# Altium footprint library LayoutFootprintsGoogle.PcbLib: 10 footprints
Each footprint in its own frame and in the unit in brackets; x right, y up, seen from the top. Pads: shape width x height; smd on the part's side, far side on the other; paste and mask are expansions set on the pad; w line width, h text height; cw(c..) or ccw(c..) is an arc to the next point about the centre after c.
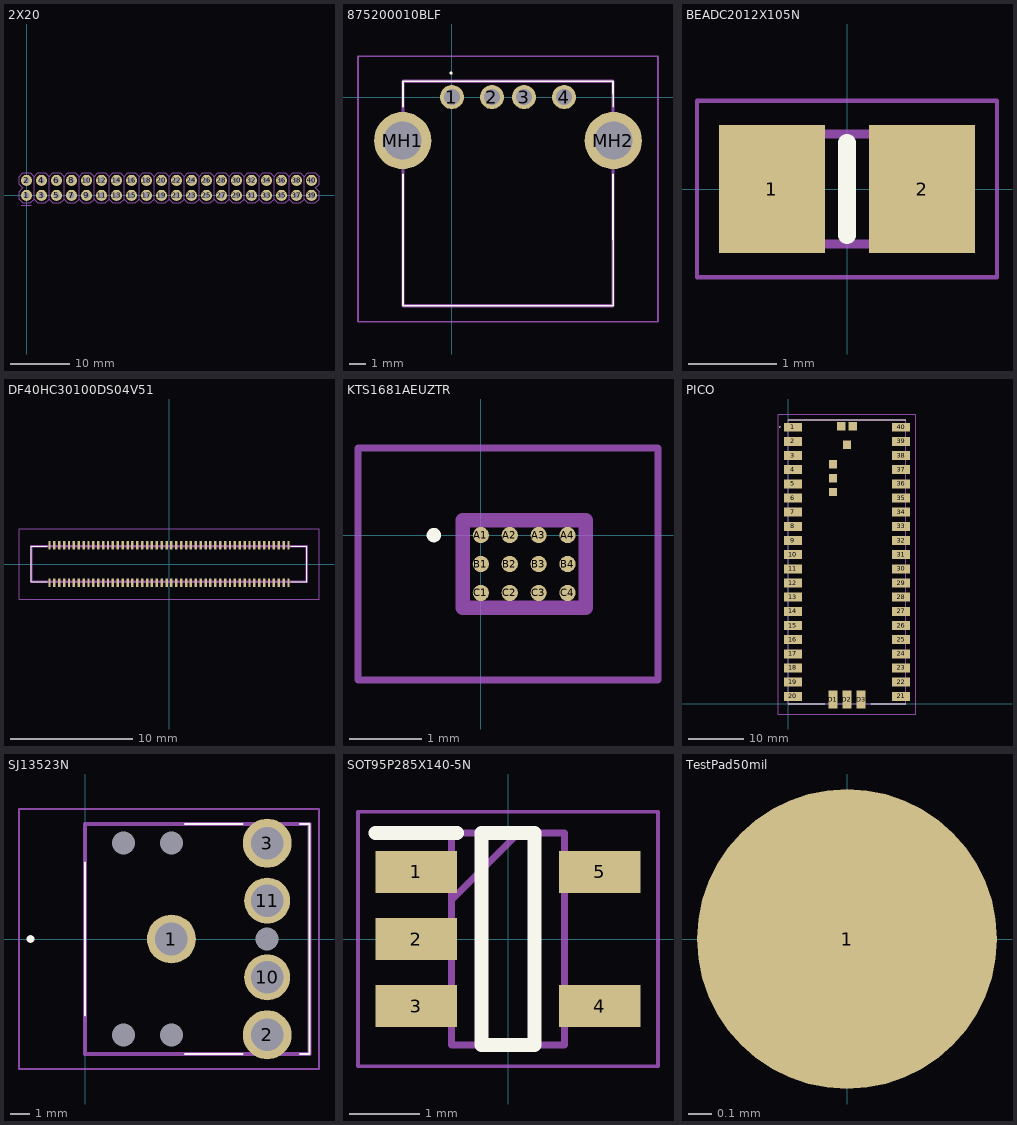
[diagram p0: the footprints below, top view; thin cyan lines are the x and y axes]

## 2X20 [mil]
pads (40):
  round 74 hole 40: 1(0,0) 2(0,100) 3(100,0) 4(100,100) 5(200,0) 6(200,100) 7(300,0) 8(300,100) 9(400,0) 10(400,100) 11(500,0) 12(500,100) 13(600,0) 14(600,100) 15(700,0) 16(700,100) 17(800,0) 18(800,100) 19(900,0) 20(900,100) 21(1000,0) 22(1000,100) 23(1100,0) 24(1100,100) 25(1200,0) 26(1200,100) 27(1300,0) 28(1300,100) 29(1400,0) 30(1400,100) 31(1500,0) 32(1500,100) 33(1600,0) 34(1600,100) 35(1700,0) 36(1700,100) 37(1800,0) 38(1800,100) 39(1900,0) 40(1900,100)
Mechanical 3:
  drawing of 40 lines, arcs and shapes, not listed
Mechanical 7:
  lines w8: -35,-65 30,-65 ; 50,-25 25,-50 -25,-50 -50,-25 -50,25 -25,50 -50,75 -50,125 -25,150 25,150 50,125 ; 50,-25 75,-50 125,-50 150,-25 ; 50,-25 50,125 ; 50,125 75,150 125,150 150,125 ; 150,-25 175,-50 225,-50 250,-25 ; 150,-25 150,125 ; 150,125 175,150 225,150 250,125 ; 250,-25 275,-50 325,-50 350,-25 ; 250,-25 250,125 ; 250,125 275,150 325,150 350,125 ; 350,-25 375,-50 425,-50 450,-25 ; 350,-25 350,125 ; 350,125 375,150 425,150 450,125 ; 450,-25 475,-50 525,-50 550,-25 ; 450,-25 450,125 ; 450,125 475,150 525,150 550,125 ; 550,-25 575,-50 625,-50 650,-25 ; 550,-25 550,125 ; 550,125 575,150 625,150 650,125 ; 650,-25 675,-50 725,-50 750,-25 ; 650,-25 650,125 ; 650,125 675,150 725,150 750,125 ; 750,-25 775,-50 825,-50 850,-25 ; 750,-25 750,125 ; 750,125 775,150 825,150 850,125 ; 850,-25 875,-50 925,-50 950,-25 ; 850,-25 850,125 ; 850,125 875,150 925,150 950,125 ; 950,-25 975,-50 1025,-50 1050,-25 ; 950,-25 950,125 ; 950,125 975,150 1025,150 1050,125 ; 1050,-25 1075,-50 1125,-50 1150,-25 ; 1050,-25 1050,125 ; 1050,125 1075,150 1125,150 1150,125 ; 1150,-25 1175,-50 1225,-50 1250,-25 ; 1150,-25 1150,125 ; 1150,125 1175,150 1225,150 1250,125 ; 1250,-25 1250,125 ; 1250,-25 1275,-50 1325,-50 1350,-25 ; 1250,125 1275,150 1325,150 1350,125 ; 1350,-25 1350,125 ; 1350,-25 1375,-50 1425,-50 1450,-25 ; 1350,125 1375,150 1425,150 1450,125 ; 1450,-25 1450,125 ; 1450,-25 1475,-50 1525,-50 1550,-25 ; 1450,125 1475,150 1525,150 1550,125 ; 1550,-25 1550,125 ; 1550,-25 1575,-50 1625,-50 1650,-25 ; 1550,125 1575,150 1625,150 1650,125 ; 1650,-25 1650,125 ; 1650,-25 1675,-50 1725,-50 1750,-25 ; 1650,125 1675,150 1725,150 1750,125 ; 1750,-25 1750,125 ; 1750,-25 1775,-50 1825,-50 1850,-25 ; 1750,125 1775,150 1825,150 1850,125 ; 1850,-25 1850,125 ; 1850,-25 1875,-50 1925,-50 1950,-25 1950,25 1925,50 1950,75 1950,125 1925,150 1875,150 1850,125
Mechanical 8:
  lines w8: -35,-65 30,-65

## 875200010BLF [mm]
pads (6):
  round 1.5 hole 1: 1(0,0) 2(2.5,0) 3(4.5,0) 4(7,0)
  round 3.57 hole 2.38: MH1(-3.07,-2.71) MH2(10.07,-2.71)
Top Overlay:
  lines w0.1: -3.05,-4.81 -3.05,-13.01 10.07,-13.01 10.05,-4.81 ; -3.05,-0.61 -3.05,0.99 10.05,0.99 10.07,-0.61 ; -0.1,1.5 ccw(c-0.05,1.5) 0,1.5 ccw(c-0.05,1.5) -0.1,1.5
Mechanical 13:
  lines w0.2: -3.05,-13.01 -3.05,0.99 10.05,0.99 10.05,-13.01 -3.05,-13.01
Mechanical 15:
  lines w0.1: -5.855,-14.01 -5.855,2.55 12.855,2.55 12.855,-14.01 -5.855,-14.01
3D body "87520-0010BLF.stp": height 7.9, standoff -5, extent -4.151,-13.01 11.16,0.99

## BEADC2012X105N [mm]
pads (2):
  rect 1.2x1.45 smd: 1(-0.85,0) 2(0.85,0)
Top Overlay:
  lines w0.2: 0,-0.525 0,0.525
Mechanical 13:
  lines w0.1: -1,-0.625 1,-0.625 1,0.625 -1,0.625 -1,-0.625
Mechanical 15:
  lines w0.05: -1.7,-1 1.7,-1 1.7,1 -1.7,1 -1.7,-1
3D body "MMZ2012Y152B.stp": height 1.05, standoff 0, extent -1,-0.625 1,0.625

## DF40HC30100DS04V51 [mm]
pads (100):
  rect 0.2x0.7 smd: 1(9.8,-1.54) 2(9.8,1.54) 3(9.4,-1.54) 4(9.4,1.54) 5(9,-1.54) 6(9,1.54) 7(8.6,-1.54) 8(8.6,1.54) 9(8.2,-1.54) 10(8.2,1.54) 11(7.8,-1.54) 12(7.8,1.54) 13(7.4,-1.54) 14(7.4,1.54) 15(7,-1.54) 16(7,1.54) 17(6.6,-1.54) 18(6.6,1.54) 19(6.2,-1.54) 20(6.2,1.54) 21(5.8,-1.54) 22(5.8,1.54) 23(5.4,-1.54) 24(5.4,1.54) 25(5,-1.54) 26(5,1.54) 27(4.6,-1.54) 28(4.6,1.54) 29(4.2,-1.54) 30(4.2,1.54) 31(3.8,-1.54) 32(3.8,1.54) 33(3.4,-1.54) 34(3.4,1.54) 35(3,-1.54) 36(3,1.54) 37(2.6,-1.54) 38(2.6,1.54) 39(2.2,-1.54) 40(2.2,1.54) 41(1.8,-1.54) 42(1.8,1.54) 43(1.4,-1.54) 44(1.4,1.54) 45(1,-1.54) 46(1,1.54) 47(0.6,-1.54) 48(0.6,1.54) 49(0.2,-1.54) 50(0.2,1.54) 51(-0.2,-1.54) 52(-0.2,1.54) 53(-0.6,-1.54) 54(-0.6,1.54) 55(-1,-1.54) 56(-1,1.54) 57(-1.4,-1.54) 58(-1.4,1.54) 59(-1.8,-1.54) 60(-1.8,1.54) 61(-2.2,-1.54) 62(-2.2,1.54) 63(-2.6,-1.54) 64(-2.6,1.54) 65(-3,-1.54) 66(-3,1.54) 67(-3.4,-1.54) 68(-3.4,1.54) 69(-3.8,-1.54) 70(-3.8,1.54) 71(-4.2,-1.54) 72(-4.2,1.54) 73(-4.6,-1.54) 74(-4.6,1.54) 75(-5,-1.54) 76(-5,1.54) 77(-5.4,-1.54) 78(-5.4,1.54) 79(-5.8,-1.54) 80(-5.8,1.54) 81(-6.2,-1.54) 82(-6.2,1.54) 83(-6.6,-1.54) 84(-6.6,1.54) 85(-7,-1.54) 86(-7,1.54) 87(-7.4,-1.54) 88(-7.4,1.54) 89(-7.8,-1.54) 90(-7.8,1.54) 91(-8.2,-1.54) 92(-8.2,1.54) 93(-8.6,-1.54) 94(-8.6,1.54) 95(-9,-1.54) 96(-9,1.54) 97(-9.4,-1.54) 98(-9.4,1.54) 99(-9.8,-1.54) 100(-9.8,1.54)
Top Overlay:
  lines w0.1: -10,-1.47 -11.3,-1.47 -11.3,1.47 -10,1.47 ; 10,-1.47 11.3,-1.47 11.3,1.47 10,1.47
Mechanical 3:
  text "." at 10.287,-2.159 h1.52
Mechanical 13:
  lines w0.2: -11.3,-1.47 11.3,-1.47 11.3,1.47 -11.3,1.47 -11.3,-1.47
Mechanical 15:
  lines w0.1: -12.3,-2.89 12.3,-2.89 12.3,2.89 -12.3,2.89 -12.3,-2.89
3D body "DF40HC_3.0_-100DS-0.4V_51.stp": height 3.15, standoff 0, extent -11.3,-1.87 11.3,1.87

## KTS1681AEUZTR [mm]
pads (12):
  round 0.225 smd: A1(0,0) A2(0.4,0) A3(0.8,0) A4(1.2,0) B1(0,-0.4) B2(0.4,-0.4) B3(0.8,-0.4) B4(1.2,-0.4) C1(0,-0.8) C2(0.4,-0.8) C3(0.8,-0.8) C4(1.2,-0.8)
Top Overlay:
  lines w0.1: -0.7,0 cw(c-0.65,0) -0.6,0 cw(c-0.65,0) -0.7,0
Mechanical 13:
  lines w0.2: -0.252,-1.007 -0.252,0.207 1.452,0.207 1.452,-1.007 -0.252,-1.007
Mechanical 15:
  lines w0.1: -1.7,-2.007 -1.7,1.207 2.452,1.207 2.452,-2.007 -1.7,-2.007
3D body "KTS1681AEUZ-TR.stp": height 0.76, standoff 0, extent -0.252,-1.007 1.452,0.207

## PCBComponent_1 [mm]

## PICO [mm]
pads (49):
  rect 3.2x1.6 smd: 1(0.81,49.63) 2(0.81,47.09) 3(0.81,44.55) 4(0.81,42.01) 5(0.81,39.47) 6(0.81,36.93) 7(0.81,34.39) 8(0.81,31.85) 9(0.81,29.31) 10(0.81,26.77) 11(0.81,24.23) 12(0.81,21.69) 13(0.81,19.15) 14(0.81,16.61) 15(0.81,14.07) 16(0.81,11.53) 17(0.81,8.99) 18(0.81,6.45) 19(0.81,3.91) 20(0.81,1.37) 21(20.19,1.37) 22(20.19,3.91) 23(20.19,6.45) 24(20.19,8.99) 25(20.19,11.53) 26(20.19,14.07) 27(20.19,16.61) 28(20.19,19.15) 29(20.19,21.69) 30(20.19,24.23) 31(20.19,26.77) 32(20.19,29.31) 33(20.19,31.85) 34(20.19,34.39) 35(20.19,36.93) 36(20.19,39.47) 37(20.19,42.01) 38(20.19,44.55) 39(20.19,47.09) 40(20.19,49.63)
  rect 1.6x3.2 smd: D1(7.96,0.8) D2(10.5,0.8) D3(13.04,0.8)
  rect 1.5x1.5 smd: TP1(10.5,46.5) TP2(11.5,49.8) TP3(9.5,49.8) TP4(8,43) TP5(8,40.5) TP6(8,38)
Top Overlay:
  lines w0.1: 0,0 6.5,0 0,0 ; 0,51 21,51 0,51 ; 14.75,0 21,0 14.75,0
  lines w0.2: -1.6,49.7 ccw(c-1.55,49.7) -1.5,49.7 ; -1.6,49.7 cw(c-1.55,49.7) -1.5,49.7 ; -1.6,49.7 ccw(c-1.55,49.7) -1.5,49.7
Mechanical 13:
  lines w0.2: 0,0 21,0 21,51 0,51 0,0
Mechanical 15:
  lines w0.1: -1.79,-1.8 22.79,-1.8 22.79,52 -1.79,52 -1.79,-1.8
3D body "PICO.stp": height 3.77, standoff 0.04, extent 0,0 21,52.3

## SJ13523N [mm]
pads (10):
  round 2.55 hole 1.7: 1(4.5,0) 2(9.5,-5) 3(9.5,5)
  round 2.4 hole 1.7: 10(9.5,-2) 11(9.5,2)
  round 0.6 hole 1.2 unplated: MH1(2,5) MH2(4.5,5) MH3(9.5,0) MH4(2,-5) MH5(4.5,-5)
Top Overlay:
  lines w0.1: 0,-4 0,4 ; 5.2,-6 8.2,-6 ; 5.2,6 8.2,6 ; 11.2,-6 11.7,-6 11.7,6 11.2,6
  lines w0.2: -2.85,-0.1 ccw(c-2.85,0) -2.85,0.1 ccw(c-2.85,0) -2.85,-0.1
Mechanical 13:
  lines w0.2: 0,-6 0,6 11.7,6 11.7,-6 0,-6
Mechanical 15:
  lines w0.1: -3.45,-6.775 -3.45,6.775 12.2,6.775 12.2,-6.775 -3.45,-6.775
3D body "SJ1-3523N.stp": height 5.6, standoff -5, extent 0,-6 11.7,6

## SOT95P285X140-5N [mm]
pads (5):
  rect 1.15x0.6 smd: 1(-1.3,0.95) 2(-1.3,0) 3(-1.3,-0.95) 4(1.3,-0.95) 5(1.3,0.95)
Top Overlay:
  lines w0.2: -1.875,1.5 -0.725,1.5 ; -0.375,-1.5 -0.375,1.5 0.375,1.5 0.375,-1.5 -0.375,-1.5
Mechanical 13:
  lines w0.1: -0.8,0.55 0.15,1.5 ; -0.8,-1.5 -0.8,1.5 0.8,1.5 0.8,-1.5 -0.8,-1.5
Mechanical 15:
  lines w0.05: -2.125,-1.8 -2.125,1.8 2.125,1.8 2.125,-1.8 -2.125,-1.8
3D body "ZXCL330E5TA.stp": height 1.4, standoff 0, extent -1.425,-1.5 1.425,1.5

## TestPad50mil [mm]
pads (1):
  round 1.27 smd: 1(0,0)